# EAGLE library part S25_S25FL (library Shield)
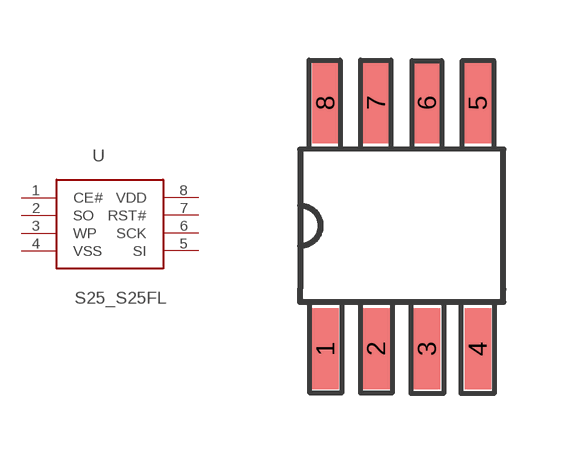
[diagram p7: symbol with the pads of S25_SO-8; footprint S25_SO-8]

Designator prefix -

## S25_S25FL  [S25_SO-8]
1  CE#
2  SO
3  WP
4  VSS
5  SI
6  SCK
7  RST#
8  VDD

## Footprint S25_SO-8 (pad centres in mm)
smd 0.66 x 2.032: 1 -1.905,-3.073; 2 -0.635,-3.073; 3 0.635,-3.073; 4 1.905,-3.073; 5 1.905,3.073; 6 0.635,3.073; 7 -0.635,3.073; 8 -1.905,3.073